# Altium footprint library LED-XTAL.PCBLIB: 105 footprints (part 5 of 7)
Each footprint in its own frame and in the unit in brackets; x right, y up, seen from the top. Pads: shape width x height; smd on the part's side, far side on the other; paste and mask are expansions set on the pad; w line width, h text height; cw(c..) or ccw(c..) is an arc to the next point about the centre after c.
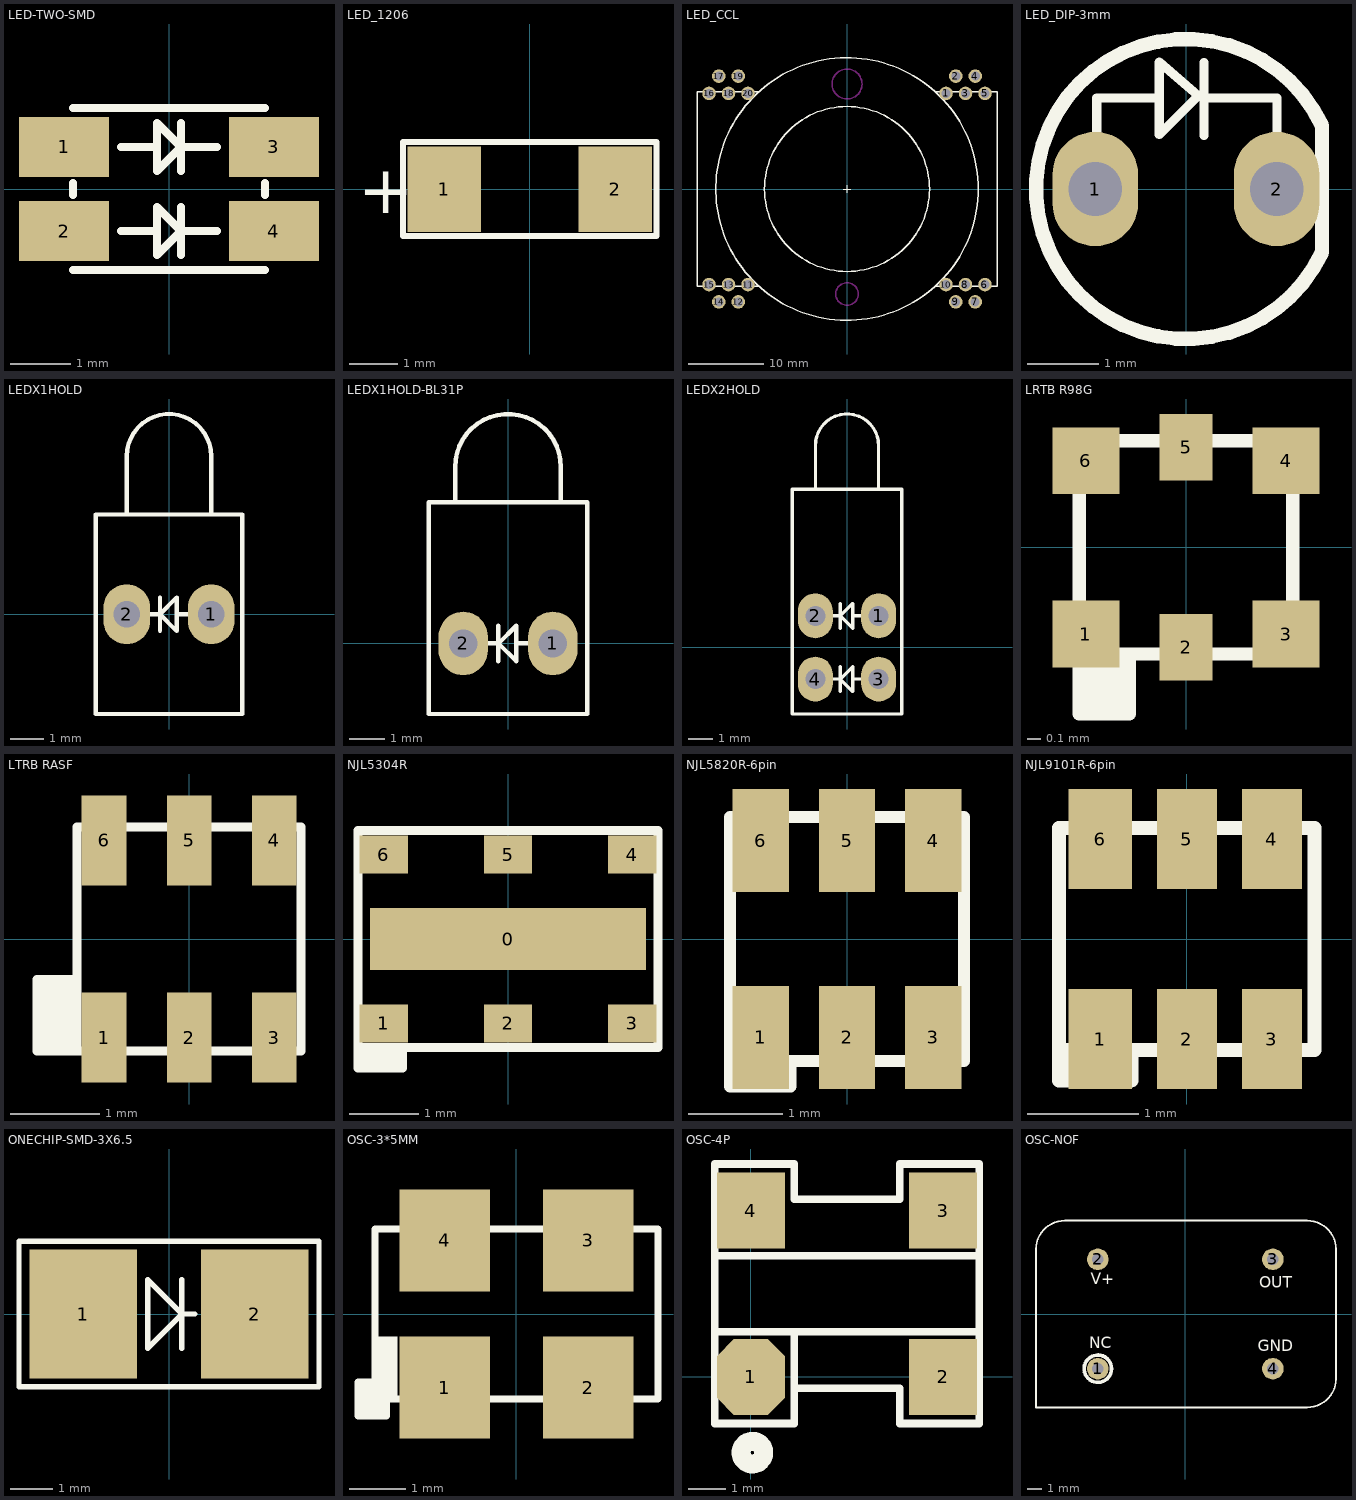
[diagram p4: the footprints below, top view; thin cyan lines are the x and y axes]

## LED-TWO-SMD [mm]
pads (4):
  rect 1.5x1 smd: 1(-1.75,0.7) 2(-1.75,-0.7) 3(1.75,0.7) 4(1.75,-0.7)
TopOverlay:
  lines w0.127: -1.6,-1.35 1.6,-1.35 ; -1.6,-0.1 -1.6,0.1 ; -1.6,1.35 1.6,1.35 ; -0.8,-0.7 -0.2,-0.7 ; -0.8,0.7 -0.2,0.7 ; 0.2,-1.1 0.2,-0.3 ; 0.2,0.3 0.2,1.1 ; 0.8,-0.7 0.2,-0.7 ; 0.8,0.7 0.2,0.7 ; 1.6,-0.1 1.6,0.1 ; 0.2,-0.7 -0.2,-0.3 -0.2,-1.1 0.2,-0.7 ; 0.2,0.7 -0.2,1.1 -0.2,0.3 0.2,0.7

## LED_1206 [mm] "LED_1206"
pads (2):
  rect 1.525x1.78 smd mask+0.05: 1(-1.78,-0.01) 2(1.78,-0.01)
TopOverlay:
  lines w0.127: -2.642,-0.978 -2.642,0.978 2.642,0.978 2.642,-0.978 -2.642,-0.978
  text "+" at -3.575,-0.5 h1

## LED_CCL [mm]
pads (20):
  round 1.8 hole 1.2: 1(13.2,12.75) 2(14.5,15.05) 3(15.8,12.75) 4(17.1,15.05) 5(18.4,12.75) 6(18.4,-12.75) 7(17.1,-15.05) 8(15.8,-12.75) 9(14.5,-15.05) 10(13.2,-12.75) 11(-13.2,-12.75) 12(-14.5,-15.05) 13(-15.8,-12.75) 14(-17.1,-15.05) 15(-18.4,-12.75) 16(-18.4,12.75) 17(-17.1,15.05) 18(-15.8,12.75) 19(-14.5,15.05) 20(-13.2,12.75)
TopOverlay:
  circle w0.2: c0,0 r17.5
  circle w0.2: c0,0 r11
  lines w0.127: -0.5,0 0.5,0 ; 0,-0.5 0,0.5
  lines w0.2: -11.7,-13 -20,-13 -20,13 -11.7,13 ; 11.7,-13 20,-13 20,13 11.7,13
KeepOutLayer:
  circle w0.2: c0,14 r2
  circle w0.2: c0,-14 r1.5

## LED_DIP-3mm [mm] "LED_DIP-3mm"
pads (2):
  oval 1.2x1.6 hole 0.75: 1(-1.27,0) 2(1.27,0)
TopOverlay:
  lines w0.127: -1.25,0.725 -1.25,1.275 -0.375,1.275 ; 0.25,0.75 0.25,1.774 ; 0.25,1.275 1.275,1.275 1.275,0.392 ; -0.375,0.762 0.169,1.306 -0.375,1.775 -0.375,0.762
  lines w0.2: 1.903,-0.887 cw(c0,0) 1.903,0.887 1.903,-0.887

## LEDX1HOLD [mm]
pads (2):
  oval 1.4x1.8 hole 0.8: 1(1.27,0) 2(-1.27,0)
TopOverlay:
  lines w0.127: -1.27,0 -0.27,0 ; -1.27,2.997 -1.27,4.747 cw(c0,4.75) 1.27,4.747 1.27,2.997 ; -0.27,-0.5 -0.27,0.5 ; 0.229,0.001 1.269,0.001 ; -2.2,-3 -2.2,3 2.2,3 2.2,-3 -2.2,-3 ; -0.269,-0.001 0.23,-0.5 0.23,0.5 -0.269,0.001

## LEDX1HOLD-BL31P [mm]
pads (2):
  oval 1.4x1.8 hole 0.8: 1(1.27,0) 2(-1.27,0)
TopOverlay:
  lines w0.127: -1.5,4 -1.5,5 cw(c0,5.004) 1.5,5 1.5,4 ; -1.27,0 -0.27,0 ; -0.27,-0.5 -0.27,0.5 ; 0.229,0.001 1.269,0.001 ; -2.25,-2 2.25,-2 2.25,4 -2.25,4 -2.25,-2 ; -0.269,0.001 0.23,0.5 0.23,-0.5 -0.269,-0.001

## LEDX2HOLD [mm]
pads (4):
  oval 1.4x1.8 hole 0.8: 1(1.27,1.27) 2(-1.27,1.27) 3(1.27,-1.27) 4(-1.27,-1.27)
TopOverlay:
  lines w0.127: -1.27,-1.27 -0.27,-1.27 ; -1.27,1.27 -0.27,1.27 ; -1.27,6.35 -1.27,8.1 ; -1.27,8.097 cw(c0,8.1) 1.27,8.097 ; -0.27,-1.77 -0.27,-0.77 ; -0.27,0.77 -0.27,1.77 ; 0.229,-1.269 1.269,-1.269 ; 0.229,1.271 1.269,1.271 ; 1.27,6.35 1.27,8.1 ; -2.2,-2.67 2.2,-2.67 2.2,6.35 -2.2,6.35 -2.2,-2.67 ; -0.269,-1.271 0.23,-1.77 0.23,-0.77 -0.269,-1.269 ; -0.269,1.269 0.23,0.77 0.23,1.77 -0.269,1.271

## LRTB R98G [mm] "LRTB R98G"
pads (6):
  rect 0.5x0.5 smd: 1(-0.75,-0.65) 3(0.75,-0.65) 4(0.75,0.65) 6(-0.75,0.65)
  rect 0.4x0.5 smd: 2(0,-0.75) 5(0,0.75)
TopOverlay:
  rectangle: -0.85,-1.25 -0.375,-0.8
  lines w0.1: -0.425,-0.8 -0.425,-1.25 -0.8,-1.25 -0.8,-0.8 ; -0.8,-0.8 -0.8,0.8 0.8,0.8 0.8,-0.8 -0.8,-0.8

## LTRB RASF [mm] "LTRB RASF"
pads (6):
  rect 0.5x1 smd: 1(-0.95,-1.1) 2(0,-1.1) 3(0.95,-1.1) 4(0.95,1.1) 5(0,1.1) 6(-0.95,1.1)
TopOverlay:
  region: -1.7,-0.45 -1.7,-1.3 -1.25,-1.3 -1.25,-0.45
  lines w0.1: -1.25,-0.45 -1.7,-0.45 -1.7,-1.25 -1.25,-1.25 ; -1.25,-1.25 1.25,-1.25 1.25,1.25 -1.25,1.25 -1.25,-1.25

## NJL5304R [mm]
pads (7):
  rect 4x0.9 smd: 0(0,0)
  rect 0.7x0.55 smd: 1(-1.8,-1.225) 2(0,-1.225) 3(1.8,-1.225) 4(1.8,1.225) 5(0,1.225) 6(-1.8,1.225)
TopOverlay:
  rectangle: -2.175,-1.875 -1.525,-1.6
  lines w0.127: -1.525,-1.6 -1.525,-1.875 -2.175,-1.875 -2.175,-1.575 ; -2.175,-1.575 -2.175,1.575 2.175,1.575 2.175,-1.575 -2.175,-1.575

## NJL5820R-6pin [mm] "NJL5820R-6pin"
pads (6):
  rect 0.6x1.1 smd: 1(-0.92,-1.05) 2(0,-1.05) 3(0.92,-1.05) 4(0.92,1.05) 5(0,1.05) 6(-0.92,1.05)
TopOverlay:
  rectangle: -1.25,-1.575 -0.6,-1.3
  lines w0.127: -1.25,-1.275 -1.25,-1.575 -0.6,-1.575 -0.6,-1.3 ; -1.25,-1.3 1.25,-1.3 1.25,1.3 -1.25,1.3 -1.25,-1.3

## NJL9101R-6pin [mm] "NJL9101R"
pads (6):
  rect 0.57x0.9 smd: 1(-0.78,-0.9) 6(-0.78,0.9)
  rect 0.54x0.9 smd: 2(0,-0.9) 3(0.765,-0.9) 4(0.765,0.9) 5(0,0.9)
TopOverlay:
  rectangle: -1.15,-1.275 -0.5,-1
  lines w0.127: -1.15,-0.975 -1.15,-1.275 -0.5,-1.275 -0.5,-1 ; -1.15,-1 1.15,-1 1.15,1 -1.15,1 -1.15,-1

## ONECHIP-SMD-3X6.5 [mm]
pads (2):
  rect 2.5x3 smd: 1(-2,0) 2(2,0)
TopOverlay:
  lines w0.127: 0.3,-0.8 0.3,0.8 ; 0.6,0 0.3,0 ; 0.3,0 -0.5,0.8 -0.5,-0.8 0.3,0 ; -3.5,-1.7 3.5,-1.7 3.5,1.7 -3.5,1.7 -3.5,-1.7

## OSC-3*5MM [mm]
pads (4):
  rect 1.6x1.8 smd: 1(-1.27,-1.3) 2(1.27,-1.3) 3(1.27,1.3) 4(-1.27,1.3)
TopOverlay:
  rectangle: -2.8,-1.8 -2.3,-1.2
  rectangle: -2.5,-1.5 -2.1,-0.4
  lines w0.127: -2.5,-1.2 -2.8,-1.2 -2.8,-1.8 -2.3,-1.8 -2.3,-1.5 ; -2.5,-1.5 2.5,-1.5 2.5,1.5 -2.5,1.5 -2.5,-1.5

## OSC-4P [mm]
pads (4):
  oct 1.8x2 smd: 1(0,0)
  rect 1.8x2 smd: 2(5.08,0) 3(5.08,4.4) 4(0,4.4)
TopOverlay:
  circle w0.5: c0.04,-2 r0.3
  lines w0.2: -0.96,3.2 6.04,3.2 ; -0.957,1.197 1.143,1.197 ; 6.037,1.197 1.143,1.197 ; 1.143,-0.3 1.143,-1.229 -0.96,-1.229 -0.96,-0.3 -0.96,4.7 -0.96,5.629 1.143,5.629 1.143,4.7 3.937,4.7 3.937,5.629 6.04,5.629 6.04,4.7 6.04,-0.3 6.04,-1.229 3.937,-1.229 3.937,-0.3 1.143,-0.3 ; 1.143,-0.3 1.143,1.197

## OSC-NOF [mm]
pads (4):
  round 1.5 hole 0.8: 1(-6.095,-3.81) 2(-6.095,3.81) 3(6.095,3.81) 4(6.095,-3.81)
TopOverlay:
  circle w0.254: c-6.095,-3.81 r0.954
  lines w0.127: -10.4,-6.5 8.49,-6.5 ccw(c8.49,-4.5) 10.49,-4.5 10.49,4.5 ccw(c8.49,4.5) 8.49,6.5 -8.4,6.5 ccw(c-8.4,4.5) -10.4,4.5 -10.4,-6.5
  text "OUT" at 5.13,1.84 h0.8
  text "GND" at 5.03,-2.61 h0.8
  text "NC" at -6.685,-2.375 h0.8
  text "V+" at -6.585,2.075 h0.8